# Altium footprint library JWB-001_Main.PcbLib: 34 footprints (part 1 of 3)
Each footprint in its own frame and in the unit in brackets; x right, y up, seen from the top. Pads: shape width x height; smd on the part's side, far side on the other; paste and mask are expansions set on the pad; w line width, h text height; cw(c..) or ccw(c..) is an arc to the next point about the centre after c.
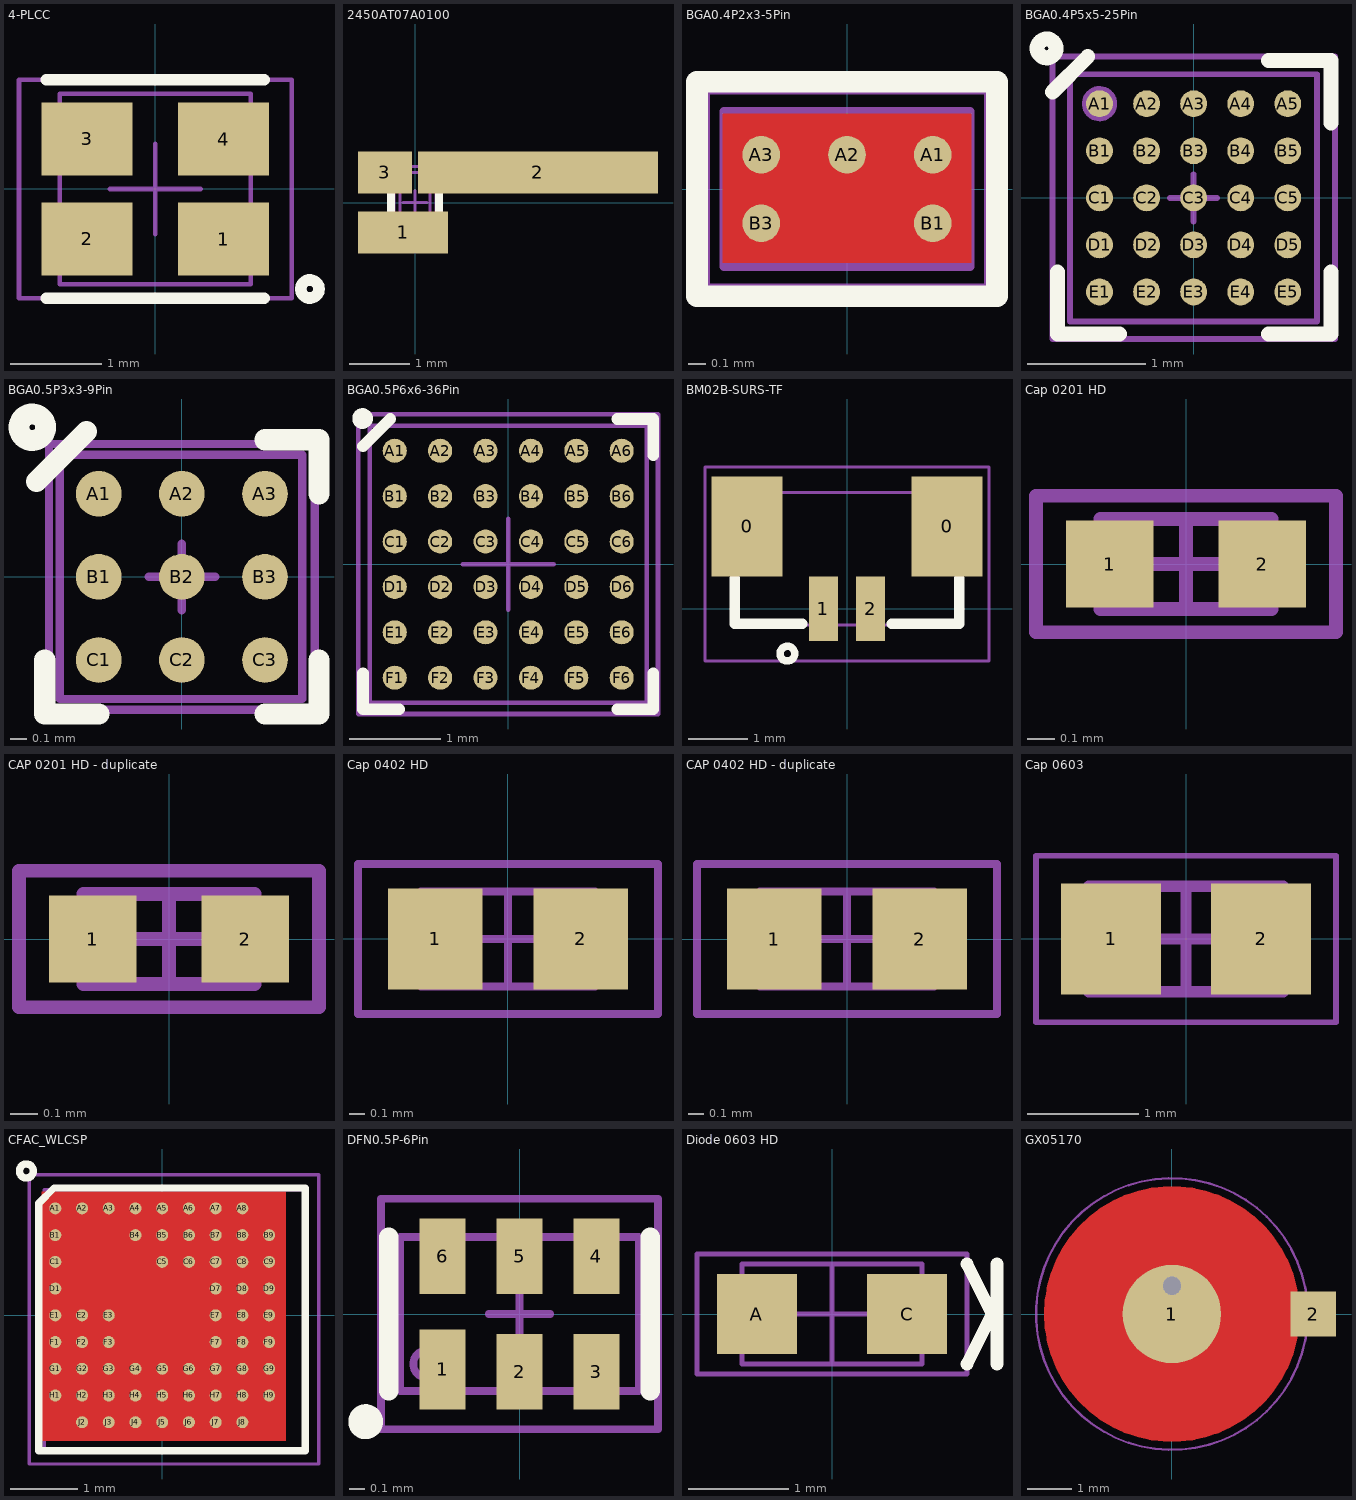
[diagram p0: the footprints below, top view; thin cyan lines are the x and y axes]

## 4-PLCC [mm] "4 Pin Plastic Leaded Chip Carrier, 2mm x 2mm"
height 1
pads (4):
  rect 1x0.8 smd: 1(0.75,-0.55) 2(-0.75,-0.55) 3(-0.75,0.55) 4(0.75,0.55)
Top Overlay:
  circle w0.127: c1.7,-1.1 r0.1
  lines w0.127: -1.2,-1.2 1.2,-1.2 ; -1.2,1.2 1.2,1.2
Mechanical 11:
  text ".Designator" at -1.491,0.411 h0.8
Mechanical 13:
  lines w0.05: -1.05,-1.05 1.05,-1.05 1.05,1.05 -1.05,1.05 -1.05,-1.05
Mechanical 15:
  lines w0.05: -0.5,0 0.5,0 ; 0,-0.5 0,0.5 ; -1.5,-1.2 1.5,-1.2 1.5,1.2 -1.5,1.2 -1.5,-1.2
3D body: height 1, standoff 0, extent -1.05,-1.05 1.05,1.05

## 2450AT07A0100 [mm] "Chip Antenna, 4 pin w/keepout area"
height 0.37
pads (3):
  rect 1.5x0.7 smd paste-0.4 mask-0.4: 1(-0.2,-0.5)
  rect 4x0.7 smd paste-2 mask-2: 2(2.05,0.5)
  rect 0.9x0.7 smd paste-0.45 mask-0.45: 3(-0.5,0.5)
Top Overlay:
  circle w0.127: c0.375,-0.675 r0.07
  lines w0.127: -0.4,-0.4 -0.4,0.4 ; 0.4,-0.4 0.4,0.4
Top Paste:
  rectangle: 0.049,-0.45 0.299,-0.15
  rectangle: -0.301,-0.45 -0.051,-0.15
  rectangle: -0.301,0.15 -0.051,0.45
  rectangle: 0.049,0.15 0.299,0.45
Top Solder:
  rectangle: -0.301,0.15 -0.051,0.45
  rectangle: 0.049,0.15 0.299,0.45
  rectangle: 0.049,-0.45 0.299,-0.15
  rectangle: -0.301,-0.45 -0.051,-0.15
Mechanical 11:
  text ".Designator" at 0.255,-0.824 h0.5
Mechanical 13:
  lines w0.05: -0.25,-0.5 0.25,-0.5 0.25,0.5 -0.25,0.5 -0.25,-0.5
Mechanical 15:
  lines w0.05: -0.2,0 0.2,0 ; 0,-0.2 0,0.2 ; -0.35,-0.6 -0.35,0.6 0.35,0.6 0.35,-0.6 -0.35,-0.6
Multi-Layer:
  pour cut-out: -0.95,0.95 -0.95,-2.05 4.05,-2.05 4.05,0.95
3D body: height 0.37, standoff 0, extent -0.25,-0.5 0.25,0.5

## BGA0.4P2x3-5Pin [mm] "UFBGA, 5 pin 2 row x 3 column, .4mm x .5mm pitch,  1.385mm x .855mm"
height 0.63
pads (5):
  round 0.22 smd mask+0.05: A1(0.5,0.2) A2(0,0.2) A3(-0.5,0.2) B1(0.5,-0.2) B3(-0.5,-0.2)
Top Layer:
  pour cut-out: -0.725,-0.43 0.725,-0.43 0.725,0.44 -0.725,0.44
Top Overlay:
  lines w0.127: -0.875,-0.625 -0.875,0.625 0.875,0.625 0.875,-0.625 -0.875,-0.625
Mechanical 11:
  text ".Designator" at -0.684,-0.227 h0.5
Mechanical 13:
  lines w0.05: -0.718,-0.453 -0.718,0.453 0.718,0.453 0.718,-0.453 -0.718,-0.453
Mechanical 15:
  lines w0.05: -0.2,0 0.2,0 ; 0,-0.2 0,0.2 ; -0.825,-0.575 -0.825,0.575 0.825,0.575 0.825,-0.575 -0.825,-0.575
3D body: height 0.69, standoff 0.51, extent -0.725,-0.45 0.725,0.45
3D body: height 0.51, standoff 0.11, extent -0.725,-0.45 0.725,0.45
3D body: height 0.17, standoff -0.05, extent -0.609,0.091 -0.39,0.31
3D body: height 0.17, standoff -0.05, extent -0.609,-0.309 -0.39,-0.09
3D body: height 0.17, standoff -0.05, extent -0.109,0.091 0.11,0.31
3D body: height 0.17, standoff -0.05, extent 0.391,-0.309 0.61,-0.09
3D body: height 0.17, standoff -0.05, extent 0.391,0.091 0.61,0.31

## BGA0.4P5x5-25Pin [mil] "XBGA 0.4mm pitch, 5 row x 5 column, 25 Pin, 2mm x 2mm, TI S-XBGA-N25 YFF"
height 24.61
pads (25):
  rrect100% 9x9 smd mask+1.97: A1(-31.5,31.5) A2(-15.75,31.5) A3(0,31.5) A4(15.75,31.5) A5(31.5,31.5) B1(-31.5,15.75) B2(-15.75,15.75) B3(0,15.75) B4(15.75,15.75) B5(31.5,15.75) C1(-31.5,0) C2(-15.75,0) C3(0,0) C4(15.75,0) C5(31.5,0) D1(-31.5,-15.75) D2(-15.75,-15.75) D3(0,-15.75) D4(15.75,-15.75) D5(31.5,-15.75) E1(-31.5,-31.5) E2(-15.75,-31.5) E3(0,-31.5) E4(15.75,-31.5) E5(31.5,-31.5)
Top Overlay:
  circle w5: c-49.21,50 r3.15
  lines w5: -47.24,35.43 -35.43,47.24 ; -45.59,-24.76 -45.59,-45.59 -24.76,-45.59 ; 25,-45.59 46,-45.59 46,-24.76 ; 25,46 46,46 46,25
Mechanical 11:
  text ".Designator" at -29.53,-9.84 h19.68
Mechanical 13:
  circle w1.97: c-31.5,31.5 r4.92
  lines w1.97: -41.34,-41.34 -41.34,41.34 41.34,41.34 41.34,-41.34 -41.34,-41.34
Mechanical 15:
  lines w1.97: -7.87,0 7.87,0 ; 0,-7.87 0,7.87 ; -47.24,-47.24 47.24,-47.24 47.24,47.24 -47.24,47.24 -47.24,-47.24
3D body: height 24.61, standoff 0, extent -41.34,-41.34 41.34,41.34

## BGA0.5P3x3-9Pin [mm] "DSBGA 0.5mm pitch, 3 row x 3 column, 9 Pin, 1.47mm x 1.47mm, TI S-XBGA-N9 YZF"
height 0.625
pads (9):
  round 0.275 smd paste+0 mask+0.05: A1(-0.5,0.5) A2(0,0.5) A3(0.5,0.5) B1(-0.5,0) B2(0,0) B3(0.5,0) C1(-0.5,-0.5) C2(0,-0.5) C3(0.5,-0.5)
Top Overlay:
  circle w0.125: c-0.9,0.9 r0.08
  lines w0.127: -0.875,0.575 -0.575,0.875 ; -0.825,-0.5 -0.825,-0.825 -0.5,-0.825 ; 0.5,-0.825 0.825,-0.825 0.825,-0.5 ; 0.5,0.825 0.825,0.825 0.825,0.5
Mechanical 11:
  text ".Designator" at 0.781,0.23 h0.5
Mechanical 13:
  lines w0.05: -0.734,-0.735 0.725,-0.735 0.725,0.734 -0.734,0.734 -0.734,-0.735
Mechanical 15:
  lines w0.05: -0.2,0 0.2,0 ; 0,-0.2 0,0.2 ; -0.8,-0.8 -0.8,0.8 0.8,0.8 0.8,-0.8 -0.8,-0.8
3D body: height 0.63, standoff 0, extent -0.735,-0.734 0.725,0.734
3D body: height 0.63, standoff 0, extent -0.6,0.401 -0.401,0.599

## BGA0.5P6x6-36Pin [mm] "BGA,Pitch 0.5mm, 36 Pin 6x6, Body 3x3mm"
height 0.68
pads (36):
  round 0.265 smd paste-0.132 mask+0.05: A1(-1.25,1.25) A2(-0.75,1.25) A3(-0.25,1.25) A4(0.25,1.25) A5(0.75,1.25) A6(1.25,1.25) B1(-1.25,0.75) B2(-0.75,0.75) B3(-0.25,0.75) B4(0.25,0.75) B5(0.75,0.75) B6(1.25,0.75) C1(-1.25,0.25) C2(-0.75,0.25) C3(-0.25,0.25) C4(0.25,0.25) C5(0.75,0.25) C6(1.25,0.25) D1(-1.25,-0.25) D2(-0.75,-0.25) D3(-0.25,-0.25) D4(0.25,-0.25) D5(0.75,-0.25) D6(1.25,-0.25) E1(-1.25,-0.75) E2(-0.75,-0.75) E3(-0.25,-0.75) E4(0.25,-0.75) E5(0.75,-0.75) E6(1.25,-0.75) F1(-1.25,-1.25) F2(-0.75,-1.25) F3(-0.25,-1.25) F4(0.25,-1.25) F5(0.75,-1.25) F6(1.25,-1.25)
Top Overlay:
  circle w0.127: c-1.605,1.605 r0.05
  lines w0.127: -1.6,-1.2 -1.6,-1.6 -1.2,-1.6 ; -1.6,1.3 -1.3,1.6 ; 1.2,-1.6 1.6,-1.6 1.6,-1.2 ; 1.2,1.6 1.6,1.6 1.6,1.2
Top Paste:
  drawing of 324 lines, arcs and shapes, not listed
Mechanical 11:
  text ".Designator" at 0.447,-1.72 h1
Mechanical 13:
  lines w0.05: -1.525,-1.525 -1.525,1.525 1.525,1.525 1.525,-1.525 -1.525,-1.525
Mechanical 15:
  lines w0.05: -0.5,0 0.5,0 ; 0,-0.5 0,0.5 ; -1.65,-1.65 -1.65,1.65 1.65,1.65 1.65,-1.65 -1.65,-1.65
3D body: height 0.68, standoff 0, extent -1.525,-1.525 1.525,1.525

## BM02B-SURS-TF [mm]
pads (4):
  rect 1.2x1.7 smd: 0(-1.7,1.4) 0(1.7,1.4)
  rect 0.5x1.1 smd: 1(-0.4,0) 2(0.4,0)
Top Overlay:
  circle w0.127: c-1.014,-0.762 r0.125
  lines w0.178: -1.905,0.508 -1.905,-0.254 -0.762,-0.254 ; 0.762,-0.254 1.905,-0.254 1.905,0.508
Mechanical 11:
  text ".Designator" at 0,0.889 h0.5
Mechanical 13:
  lines w0.05: -1.9,-0.275 -1.9,1.975 1.9,1.975 1.9,-0.275 -1.9,-0.275
Mechanical 15:
  lines w0.05: -2.413,-0.889 -2.413,2.413 2.413,2.413 2.413,-0.889 -2.413,-0.889
3D body "BM02B-SURS-TF.STEP": height 2.7, standoff -0.05, extent -1.9,-0.275 1.9,1.975

## Cap 0201 HD [mm] "Chip Capacitor, 2-Leads, Body 0.60x0.30mm, IPC High Density"
height 0.33
pads (2):
  rect 0.32x0.32 smd mask+0.05: 1(-0.28,0) 2(0.28,0)
Mechanical 11:
  text ".Designator" at -0.315,-0.165 h0.3
Mechanical 13:
  lines w0.05: -0.315,-0.165 -0.315,0.165 0.315,0.165 0.315,-0.165 -0.315,-0.165
Mechanical 15:
  lines w0.05: -0.165,0 0.165,0 ; 0,-0.165 0,0.165 ; -0.55,-0.25 0.55,-0.25 0.55,0.25 -0.55,0.25 -0.55,-0.25
3D body: height 0.33, standoff 0, extent 0.165,-0.165 0.315,0.165
3D body: height 0.33, standoff 0, extent -0.315,-0.165 -0.165,0.165
3D body: height 0.33, standoff 0, extent -0.165,-0.165 0.165,0.165

## CAP 0201 HD - duplicate [mm]
pads (2):
  rect 0.32x0.32 smd mask+0.05: 1(-0.28,0) 2(0.28,0)
Mechanical 11:
  text ".Designator" at 0.508,0.152 h0.3
Mechanical 13:
  lines w0.05: -0.315,-0.165 0.315,-0.165 0.315,0.165 -0.315,0.165 -0.315,-0.165
Mechanical 15:
  lines w0.05: -0.165,0 0.165,0 ; 0,-0.165 0,0.165 ; -0.55,-0.25 -0.55,0.25 0.55,0.25 0.55,-0.25 -0.55,-0.25
3D body: height 0.33, standoff 0, extent -0.165,-0.165 0.165,0.165
3D body: height 0.33, standoff 0, extent -0.315,-0.165 -0.165,0.165
3D body: height 0.33, standoff 0, extent 0.165,-0.165 0.315,0.165

## Cap 0402 HD [mm] "Chip Capacitor, 2-Leads, Body 1.00x0.50mm, IPC Medium Density"
height 0.6
pads (2):
  rect 0.6x0.64 smd: 1(-0.46,0) 2(0.46,0)
Mechanical 11:
  text ".Designator" at -0.875,-0.229 h0.5
Mechanical 13:
  lines w0.05: -0.55,-0.3 -0.55,0.3 0.55,0.3 0.55,-0.3 -0.55,-0.3
Mechanical 15:
  lines w0.05: -0.3,0 0.3,0 ; 0,-0.3 0,0.3 ; -0.95,-0.475 0.95,-0.475 0.95,0.475 -0.95,0.475 -0.95,-0.475
3D body: height 0.6, standoff 0, extent 0.35,-0.3 0.55,0.3
3D body: height 0.6, standoff 0, extent -0.55,-0.3 -0.35,0.3
3D body: height 0.6, standoff 0, extent -0.35,-0.3 0.35,0.3

## CAP 0402 HD - duplicate [mm]
pads (2):
  rect 0.6x0.64 smd: 1(-0.46,0) 2(0.46,0)
Mechanical 11:
  text ".Designator" at -0.889,-0.229 h0.5
Mechanical 13:
  lines w0.05: -0.55,-0.3 -0.55,0.3 0.55,0.3 0.55,-0.3 -0.55,-0.3
Mechanical 15:
  lines w0.05: -0.3,0 0.3,0 ; 0,-0.3 0,0.3 ; -0.95,-0.475 0.95,-0.475 0.95,0.475 -0.95,0.475 -0.95,-0.475
3D body: height 0.6, standoff 0, extent 0.35,-0.3 0.55,0.3
3D body: height 0.6, standoff 0, extent -0.55,-0.3 -0.35,0.3
3D body: height 0.6, standoff 0, extent -0.35,-0.3 0.35,0.3

## Cap 0603 [mm]
height 1
pads (2):
  rect 0.9x1 smd: 1(-0.675,0) 2(0.675,0)
Mechanical 11:
  text ".Designator" at 1.473,0.406 h0.8
Mechanical 13:
  lines w0.1: -0.875,-0.475 0.875,-0.475 0.875,0.475 -0.875,0.475 -0.875,-0.475
Mechanical 15:
  lines w0.05: -1.35,-0.75 1.35,-0.75 1.35,0.75 -1.35,0.75 -1.35,-0.75
  lines w0.1: -0.475,0 0.475,0 ; 0,-0.475 0,0.475
3D body: height 0.85, standoff 0, extent 0.525,-0.475 0.875,0.475
3D body: height 0.85, standoff 0, extent -0.875,-0.475 -0.525,0.475
3D body: height 0.85, standoff 0, extent -0.525,-0.475 0.525,0.475

## CFAC_WLCSP [mm] "BGA, 62-Leads, Body 3.83x3.83mmx0.55mm, Pitch 0.40mm"
height 0.55
pads (62):
  round 0.18 smd mask+0.06: A1(-1.6,1.6) A2(-1.2,1.6) A3(-0.8,1.6) A4(-0.4,1.6) A5(0,1.6) A6(0.4,1.6) A7(0.8,1.6) A8(1.2,1.6) B1(-1.6,1.2) B4(-0.4,1.2) B5(0,1.2) B6(0.4,1.2) B7(0.8,1.2) B8(1.2,1.2) B9(1.6,1.2) C1(-1.6,0.8) C5(0,0.8) C6(0.4,0.8) C7(0.8,0.8) C8(1.2,0.8) C9(1.6,0.8) D1(-1.6,0.4) D7(0.8,0.4) D8(1.2,0.4) D9(1.6,0.4) E1(-1.6,0) E2(-1.2,0) E3(-0.8,0) E7(0.8,0) E8(1.2,0) E9(1.6,0) F1(-1.6,-0.4) F2(-1.2,-0.4) F3(-0.8,-0.4) F7(0.8,-0.4) F8(1.2,-0.4) F9(1.6,-0.4) G1(-1.6,-0.8) G2(-1.2,-0.8) G3(-0.8,-0.8) G4(-0.4,-0.8) G5(0,-0.8) G6(0.4,-0.8) G7(0.8,-0.8) G8(1.2,-0.8) G9(1.6,-0.8) H1(-1.6,-1.2) H2(-1.2,-1.2) H3(-0.8,-1.2) H4(-0.4,-1.2) H5(0,-1.2) H6(0.4,-1.2) H7(0.8,-1.2) H8(1.2,-1.2) H9(1.6,-1.2) J2(-1.2,-1.6) J3(-0.8,-1.6) J4(-0.4,-1.6) J5(0,-1.6) J6(0.4,-1.6) J7(0.8,-1.6) J8(1.2,-1.6)
Top Layer:
  pour cut-out: -1.8,1.85 -1.8,-1.875 1.85,-1.875 1.85,1.85
Top Overlay:
  circle w0.11: c-2.032,2.159 r0.105
  lines w0.11: -1.85,-2.025 -1.85,1.675 -1.62,1.905 2.14,1.905 2.14,-2.025 -1.85,-2.025
Mechanical 11:
  text ".Designator" at 1.124,0.21 h0.6
Mechanical 13:
  lines w0.05: -1.765,-2 -1.765,1.88 2.115,1.88 2.115,-2 -1.765,-2
Mechanical 15:
  lines w0.05: -0.325,-0.06 0.675,-0.06 ; 0.175,-0.56 0.175,0.44 ; -1.99,-2.225 -1.99,2.105 2.34,2.105 2.34,-2.225 -1.99,-2.225
3D body: height 0.55, standoff 0, extent -1.775,-2 2.125,1.875
3D body: height 0.56, standoff 0.55, extent -1.486,1.227 -1.287,1.427

## DFN0.5P-6Pin [mm] "Ultra Fine Dual Flat No-lead, 0.5mm Pitch 6Pin, 1.45mm x 1mm"
height 0.55
pads (6):
  rect 0.3x0.52 smd mask+0.05: 1(-0.5,-0.36)
  rect 0.3x0.49 smd mask+0.05: 2(0,-0.375) 3(0.5,-0.375) 4(0.5,0.375) 5(0,0.375) 6(-0.5,0.375)
Top Overlay:
  circle w0.127: c-1,-0.7 r0.05
  lines w0.127: -0.85,-0.5 -0.85,0.5 ; 0.85,-0.5 0.85,0.5
Mechanical 11:
  text ".Designator" at -0.725,-0.2 h0.5
Mechanical 13:
  circle w0.05: c-0.6,-0.325 r0.09
  lines w0.05: -0.775,-0.5 0.775,-0.5 0.775,0.5 -0.775,0.5 -0.775,-0.5
Mechanical 15:
  lines w0.05: -0.2,0 0.2,0 ; 0,-0.2 0,0.2 ; -0.9,-0.75 -0.9,0.75 0.9,0.75 0.9,-0.75 -0.9,-0.75
3D body: height 0.55, standoff 0, extent -0.775,-0.5 0.775,0.5

## Diode 0603 HD [mm] "Chip Diode, 2-Leads, Body 1.80x1.0mm, IPC High Density"
height 0.85
pads (2):
  rect 0.8x0.8 smd: A(-0.75,0) C(0.75,0)
Top Overlay:
  lines w0.127: 1.35,-0.5 1.6,0 1.35,0.5 ; 1.65,-0.5 1.65,0.5
Mechanical 11:
  text ".Designator" at 1.27,0.356 h0.7
Mechanical 13:
  lines w0.05: -0.9,-0.5 -0.9,0.5 0.9,0.5 0.9,-0.5 -0.9,-0.5
Mechanical 15:
  lines w0.05: -0.475,0 0.475,0 ; 0,-0.475 0,0.475 ; -1.35,-0.6 -1.35,0.6 1.35,0.6 1.35,-0.6 -1.35,-0.6
3D body: height 0.85, standoff 0, extent -0.9,-0.5 0.57,0.5
3D body: height 0.85, standoff 0, extent 0.57,-0.5 0.9,0.5

## GX05170 [mil] "Snap dome, 5.3mm dia"
height 10
pads (2):
  round 87 smd paste-50 mask+70: 1(0,0)
  rect 40x40 smd paste-40: 2(125,0)
via 0,25 diameter 28 hole 16
Top Layer:
  circle w26: c0,0 r100
  pour cut-out: -26.36,95 40,95 95,40 95,-45 45,-95 -45,-95 -95,-45 -95,47.81
Mechanical 11:
  text ".Designator" at -98,18 h40
Mechanical 13:
  circle w2: c0,0 r104
Mechanical 15:
  circle w2: c0,0 r120.1
  lines w2: -20,0 20,0 ; 0,-20 0,25
3D body: height 10, standoff 0, extent -103.18,-103.79 104,103.8